# Altium footprint library 34773-0140.PcbLib: 1 footprints
Each footprint in its own frame and in the unit in brackets; x right, y up, seen from the top. Pads: shape width x height; smd on the part's side, far side on the other; paste and mask are expansions set on the pad; w line width, h text height; cw(c..) or ccw(c..) is an arc to the next point about the centre after c.
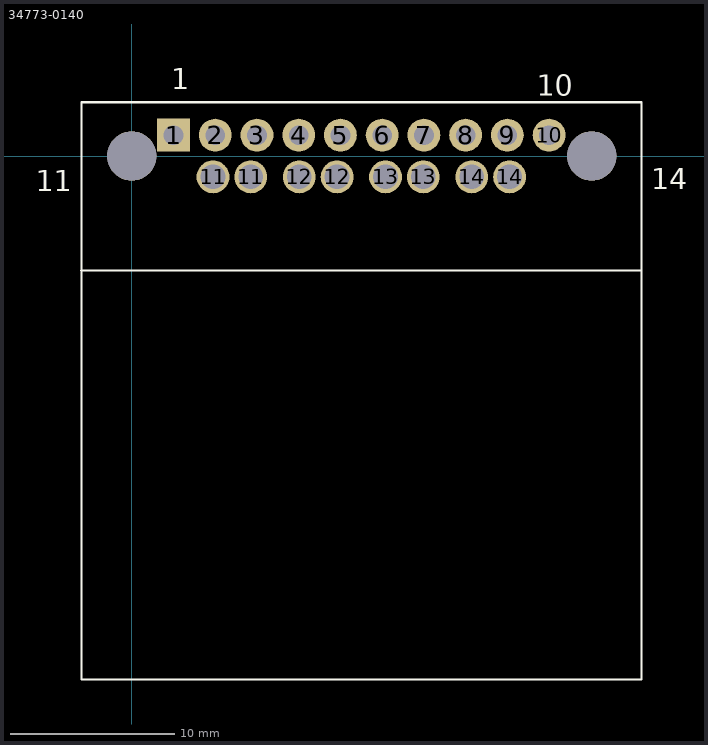
[diagram p0: the footprint, top view; thin cyan lines are the x and y axes]

## 34773-0140 [mm] "Stac64™ Hybrid Header, 14 Circuits, Right-Angle, Polarization A, Black, Tray"
height 16
pads (20):
  rect 2x2 hole 1.2: 1(2.54,1.27)
  round 2 hole 1.2: 2(5.08,1.27) 3(7.62,1.27) 4(10.16,1.27) 5(12.7,1.27) 6(15.24,1.27) 7(17.78,1.27) 8(20.32,1.27) 9(22.86,1.27) 10(25.4,1.27)
  round 2 hole 1.5: 11(4.945,-1.27) 11(7.245,-1.27) 12(10.195,-1.27) 12(12.495,-1.27) 13(15.445,-1.27) 13(17.745,-1.27) 14(20.695,-1.27) 14(22.995,-1.27)
  round 3 hole 3 unplated: ""(0,0) ""(28,0)
Top Overlay:
  lines w0.127: -3.1,-6.98 30.988,-6.98 ; -3.052,-18.87 -3.052,-31.87 ; 15.848,-31.87 -3.052,-31.87 ; -3.052,-31.87 31.036,-31.87 31.036,3.272 -3.052,3.272 -3.052,-31.87
  text "1" at 2.413,4.064 h1.27
  text "10" at 24.638,3.683 h1.27
  text "14" at 31.623,-2.032 h1.27
  text "11" at -5.842,-2.159 h1.27
3D body "347730140.stp": height 21.67, standoff -3.89, extent -3,-31.89 31.1,3.272